# Altium footprint library Wuerth.PcbLib: 5 footprints
Each footprint in its own frame and in the unit in brackets; x right, y up, seen from the top. Pads: shape width x height; smd on the part's side, far side on the other; paste and mask are expansions set on the pad; w line width, h text height; cw(c..) or ccw(c..) is an arc to the next point about the centre after c.
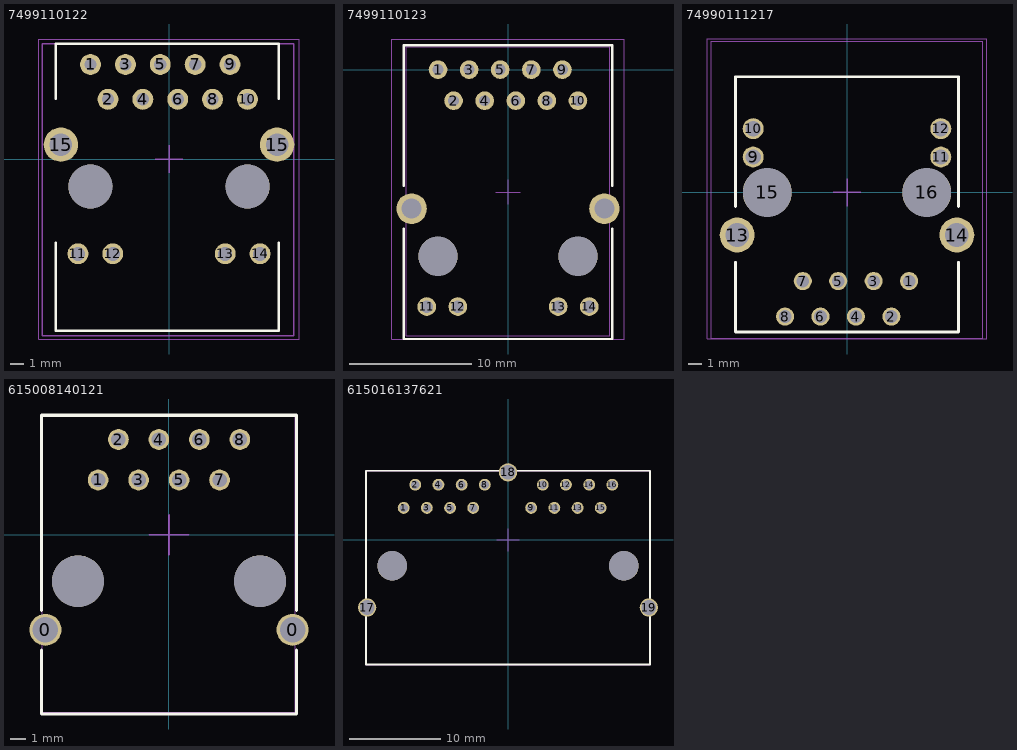
[diagram p0: the footprints below, top view; thin cyan lines are the x and y axes]

## 7499110122 [mm] "10/100/1000 BaseT Transformer"
height 14
pads (18):
  round 1.524 hole 0.89: 1(-5.715,6.895) 2(-4.445,4.355) 3(-3.175,6.895) 4(-1.905,4.355) 5(-0.635,6.895) 6(0.635,4.355) 7(1.905,6.895) 8(3.175,4.355) 9(4.445,6.895) 10(5.715,4.355)
  round 1.524 hole 1.02: 11(-6.635,-6.895) 12(-4.095,-6.895) 13(4.095,-6.895) 14(6.635,-6.895)
  round 2.5 hole 1.63: 15(-7.875,1.055) 15(7.875,1.055)
  round 3.2 hole 3.2: ""(-5.725,-1.995) ""(5.725,-1.995)
Top Overlay:
  lines w0.2: -8.25,-6.105 -8.25,-12.5 8,-12.5 8,-6.105 ; -8.25,4.395 -8.25,8.395 8,8.395 8,4.395
Mechanical 13:
  lines w0.1: -9.25,-12.855 9.1,-12.855 9.1,8.395 -9.25,8.395 -9.25,-12.855
Mechanical 15:
  lines w0.05: -9.5,-13.105 -9.5,8.75 9.5,8.75 9.5,-13.105 -9.5,-13.105
  lines w0.1: -1,0 1,0 ; 0,-1 0,1
3D body "7499110122 (rev1).stp": height 15.42, standoff -3.6, extent -9.291,-12.855 9.091,8.445

## 7499110123 [mm] "10/100/1000 BaseT Transformer, Vertical"
pads (18):
  round 1.524 hole 0.89: 1(-5.715,0) 2(-4.445,-2.54) 3(-3.175,0) 4(-1.905,-2.54) 5(-0.635,0) 6(0.635,-2.54) 7(1.905,0) 8(3.175,-2.54) 9(4.445,0) 10(5.715,-2.54)
  round 1.524 hole 1.02: 11(-6.635,-19.35) 12(-4.095,-19.35) 13(4.095,-19.35) 14(6.635,-19.35)
  round 2.5 hole 1.63: ""(-7.875,-11.35) ""(7.875,-11.35)
  round 3.2 hole 3.2: ""(-5.725,-15.24) ""(5.725,-15.24)
Top Overlay:
  lines w0.2: -8.5,-13 -8.5,-22 8.5,-22 8.5,-13 ; -8.5,-9.5 -8.5,2 8.5,2 8.5,-9.5
Mechanical 13:
  lines w0.1: -8.3,-21.74 -8.3,1.86 8.3,1.86 8.3,-21.74 -8.3,-21.74
Mechanical 15:
  lines w0.05: -9.5,-22 9.5,-22 9.5,2.5 -9.5,2.5 -9.5,-22
  lines w0.1: -1,-10 1,-10 ; 0,-11 0,-9
3D body "STEP-7499110123-rev1.stp": height 17.1, standoff -2.8, extent -8.3,-21.74 8.3,1.86

## 74990111217 [mm] "10/100 BaseT Transformer, Right Angle"
pads (16):
  round 1.3 hole 0.9: 1(4.45,-6.349) 2(3.18,-8.889) 3(1.91,-6.349) 4(0.64,-8.889) 5(-0.63,-6.349) 6(-1.9,-8.889) 7(-3.17,-6.349) 8(-4.44,-8.889)
  round 1.5 hole 1.1: 9(-6.725,2.541) 10(-6.725,4.571) 11(6.725,2.541) 12(6.725,4.571)
  round 2.5 hole 1.7: 13(-7.875,-3.049) 14(7.875,-3.049)
  round 3.5 hole 3.5: 15(-5.715,0.001) 16(5.715,0.001)
Top Overlay:
  lines w0.2: -8,-5 -8,-10 8,-10 8,-5 ; -8,-1 -8,8.3 8,8.3 8,-1
Mechanical 13:
  lines w0.05: -9.73,-10.456 9.718,-10.456 9.718,10.844 -9.73,10.844 -9.73,-10.456
Mechanical 15:
  lines w0.05: -10,-10.5 10,-10.5 10,11 -10,11 -10,-10.5
  lines w0.1: -1,0 1,0 ; 0,-1 0,1
3D body "74990111217.stp": height 15.27, standoff -3.05, extent -9.73,-10.456 9.718,10.844

## 615008140121 [mm] "Single RJ45 Jack w/o Transformer"
height 11.85
pads (12):
  round 2 hole 1.6: 0(-7.75,-5.97) 0(7.75,-5.97)
  round 1.3 hole 0.9: 1(-4.445,3.43) 2(-3.175,5.97) 3(-1.905,3.43) 4(-0.635,5.97) 5(0.635,3.43) 6(1.905,5.97) 7(3.175,3.43) 8(4.445,5.97)
  round 3.25 hole 3.25: ""(-5.715,-2.92) ""(5.715,-2.92)
Top Overlay:
  lines w0.2: -8,-7.25 -8,-11.25 8,-11.25 8,-7.25 ; -8,-4.75 -8,7.5 ; -8,7.494 8,7.494 ; 8,-4.75 8,7.5
Mechanical 13:
  lines w0.05: -7.945,-11.13 7.915,-11.13 7.915,7.57 -7.945,7.57 -7.945,-11.13
Mechanical 15:
  lines w0.1: -1.25,0 1.25,0 ; 0,-1.25 0,1.25
3D body "Download_STP_615008140121 (rev1).stp": height 12.03, standoff -3.67, extent -7.945,-11.13 7.915,7.57

## 615016137621 [mm] "Dual RJ45 Jack w/o Transformer"
height 13.5
pads (21):
  round 1.3 hole 0.9: 1(-11.43,3.515) 2(-10.16,6.055) 3(-8.89,3.515) 4(-7.62,6.055) 5(-6.35,3.515) 6(-5.08,6.055) 7(-3.81,3.515) 8(-2.54,6.055) 9(2.54,3.515) 10(3.81,6.055) 11(5.08,3.515) 12(6.35,6.055) 13(7.62,3.515) 14(8.89,6.055) 15(10.16,3.515) 16(11.43,6.055)
  round 2 hole 1.6: 17(-15.435,-7.405) 18(0,7.405) 19(15.435,-7.405)
  round 3.25 hole 3.25: ""(-12.7,-2.835) ""(12.7,-2.835)
Top Overlay:
  lines w0.2: -15.56,-13.645 -15.56,7.579 15.55,7.579 15.55,-13.645 -15.56,-13.645
Mechanical 13:
  lines w0.05: -15.56,-13.673 -15.56,7.597 15.57,7.597 15.57,-13.673 -15.56,-13.673
Mechanical 15:
  lines w0.1: -1.25,0 1.25,0 ; 0,-1.25 0,1.25
3D body "STEP-615016137621-rev1.stp": height 13.75, standoff -3.85, extent -15.56,-13.673 15.57,7.597